# EAGLE library part MIC4680 (library Labor)
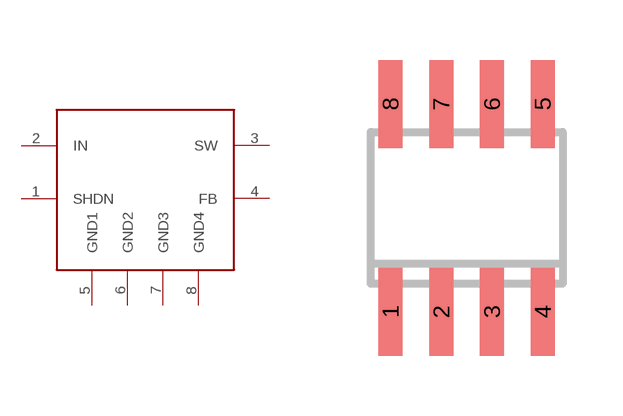
[diagram p10: symbol with the pads of SO8; footprint SO8]

Designator prefix -

## MIC4680  [SO8]
1  SHDN
2  IN
3  SW
4  FB
5  GND1
6  GND2
7  GND3
8  GND4

## Footprint SO8 (pad centres in mm)
8-Lead Small Outline IC (SO-8) Source: http://www.analog.com/UploadedFiles/Data_Sheets/703465986AD8611_2_0.pdf
smd 0.6 x 2.2: 1 -1.905,-2.6; 2 -0.635,-2.6; 3 0.635,-2.6; 4 1.905,-2.6; 5 1.905,2.6; 6 0.635,2.6; 7 -0.635,2.6; 8 -1.905,2.6